# EAGLE library part DPS368 (library bschulz)
DPS368 - Digital Pressure Sensor Characteristics: Vcc: 1.7V ~ 3.6V Pressure Range: 300 ~ 1200 mBar Pressure Resolution: 0.002 mBar, max Pressure Accuracy: relative ±0.06 mBar, abs ± 1 mBar Temperature Resolution: 0.01°C Temperature Accuracy: 0.5°C Operating Temperature: -40°C to 85°C Digikey: DPS368XTSA1CT-ND <https://www.digikey.com/product-detail/en/DPS368XTSA1/DPS368XTSA1CT-ND/10244081/?itemSeq=300835075>
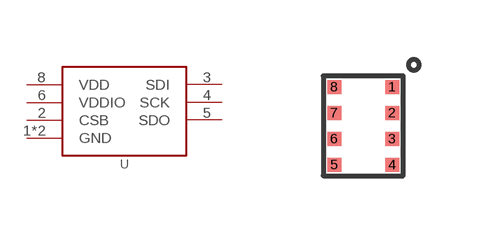
[diagram p106: symbol with the pads of PG-VLGA-8; footprint PG-VLGA-8]

Designator prefix U

## DPS368 (DIGIKEY: DPS368XTSA1CT-ND; DISP: DPS368; MF: Infineon; MPN: DPS368XTSA1)  [PG-VLGA-8]
1  GND  pwr
2  CSB
3  SDI
4  SCK
5  SDO
6  VDDIO
7  GND  pwr
8  VDD  pwr

## Footprint PG-VLGA-8 (pad centres in mm)
Footprint for DPS368 <https://www.infineon.com/dgdl/Infineon-DPS368-DS-v01_00-EN.pdf?fileId=5546d46269e1c019016a0c45105d4b40>
smd 0.35 x 0.35: 1 0.725,0.975; 2 0.725,0.325; 3 0.725,-0.325; 4 0.725,-0.975; 5 -0.725,-0.975; 6 -0.725,-0.325; 7 -0.725,0.325; 8 -0.725,0.975